# Altium schematic symbol library Memory.SchLib: 3 symbols
Pins are listed as number, name and electrical type; pins without a type are passive.

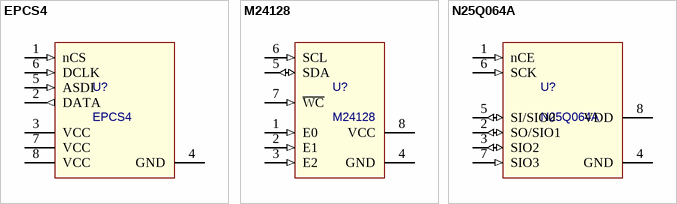
[diagram p0: symbols EPCS4 to N25Q064A]

## EPCS4
designator U?
Manufacture: STMicroelectronics; Part number: EPCS4
footprint SOIC8 (STMicroelectronics SO8N) (SOIC, 8-Leads, Body 4,90x3,90mm, Pitch 1,27mm, IPC Medium Density)
pins: 1 nCS (in) "Chip select.", 2 DATA (out) "Address bit 1.", 3 VCC (power) "Supply voltage.", 4 GND (power) "Ground.", 5 ASDI (in) "Serial data input.", 6 DCLK (in) "Serial clock.", 7 VCC (power) "Write control.", 8 VCC (power) "Address bit 2."

## M24128
designator U?
Manufacture: STMicroelectronics; Part number: M24128DFMC
footprint SOIC8 (STMicroelectronics SO8N) (SOIC, 8-Leads, Body 4,90x3,90mm, Pitch 1,27mm, IPC Medium Density)
footprint UFDFPN8(DFN8, STMicroelectronics) (UFDFPN, 8-Leads, Body 2,00x3,00mm, Pitch 0,50mm, Thermal Pad 1,40x1,40mm, IPC Medium Density)
pins: 1 E0 (in) "Address bit 0.", 2 E1 (in) "Address bit 1.", 3 E2 (in) "Address bit 2.", 4 GND (power) "Ground.", 5 SDA (io) "Serial data.", 6 SCL (in) "Serial clock.", 7 ~{WC} (in) "Write control.", 8 VCC (power) "Supply voltage."

## N25Q064A
designator U?
Manufacture: STMicroelectronics; Part number: M24128DFMC
footprint SOIC8 (STMicroelectronics SO8N) (SOIC, 8-Leads, Body 4,90x3,90mm, Pitch 1,27mm, IPC Medium Density)
footprint UFDFPN8(DFN8, STMicroelectronics) (UFDFPN, 8-Leads, Body 2,00x3,00mm, Pitch 0,50mm, Thermal Pad 1,40x1,40mm, IPC Medium Density)
pins: 1 nCE (in) "Address bit 0.", 2 SO/SIO1 (io) "Address bit 1.", 3 SIO2 (io) "Address bit 2.", 4 GND (power) "Ground.", 5 SI/SIO0 (io) "Serial data.", 6 SCK (in) "Serial clock.", 7 SIO3 (in) "Write control.", 8 VDD (power) "Supply voltage."